# EAGLE library part CS4340 (library cirrus)
24 Bit 96 kHz Stereo D/A Converter for Audio
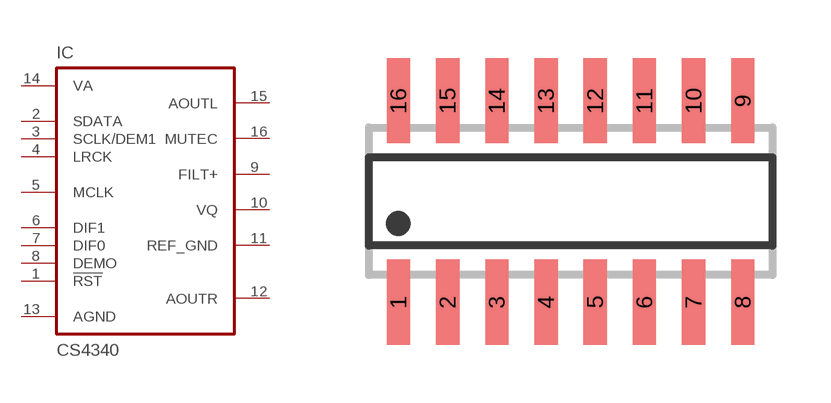
[diagram p10: symbol with the pads of SO16; footprint SO16]

Designator prefix IC

## CS4340  [SO16]
1  !RST!  in
2  SDATA  in
3  SCLK/DEM1  in
4  LRCK  in
5  MCLK  in
6  DIF1  in
7  DIF0  in
8  DEMO  in
9  FILT+  pas
10  VQ  pas
11  REF_GND  pwr
12  AOUTR  out
13  AGND  pwr
14  VA  pwr
15  AOUTL  out
16  MUTEC  out

## Footprint SO16 (pad centres in mm)
SMALL OUTLINE INTEGRATED CIRCUIT body 3.9 mm/JEDEC MS-012AC
smd 0.6 x 2.2: 1 -4.445,-2.6; 2 -3.175,-2.6; 3 -1.905,-2.6; 4 -0.635,-2.6; 5 0.635,-2.6; 6 1.905,-2.6; 7 3.175,-2.6; 8 4.445,-2.6; 9 4.445,2.6; 10 3.175,2.6; 11 1.905,2.6; 12 0.635,2.6; 13 -0.635,2.6; 14 -1.905,2.6; 15 -3.175,2.6; 16 -4.445,2.6